# Altium schematic symbol library SCH - DIODES - SCHOTTKY_VS-12CWQ10FN-M3.SCHLIB: 1 symbol
Pins are listed as number, name and electrical type; pins without a type are passive.

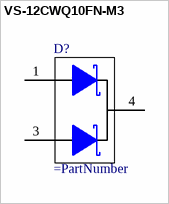
[diagram p0: symbol VS-12CWQ10FN-M3]

## VS-12CWQ10FN-M3
designator D?
Diode, Schottky, 100 V, 6 A, DPAK
footprint DPAK
pins: 1 A, 3 A, 4 K